# Altium schematic symbol library conectors.SchLib: 14 symbols
Pins are listed as number, name and electrical type; pins without a type are passive.

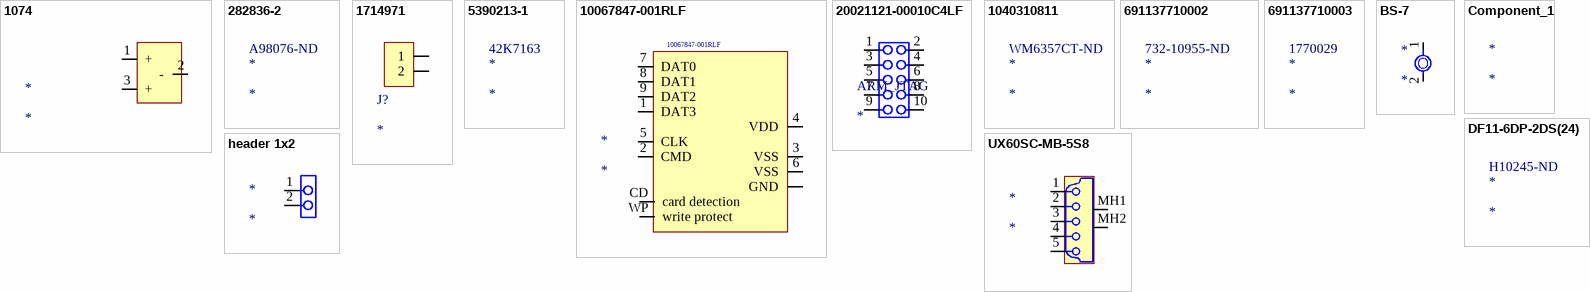
[diagram p0: symbols 1074 to UX60SC-MB-5S8]

## 1074
designator *
Strain Relief Bushing; .437" Mounting Hole; Black; Manufacturer 1: Keystone Electronics; Manufacturer Part Number 1: 1074; Supplier 1: Digi-Key; Stock 1: 5773; Pricing 1: 1=0,66000, 25=0,57280, 100=0,46150, 250=0,42480, 500=0,39892, 1000=0,37305, 2500=0,34070, 5000=0,31483 (USD); RoHS: No; Supplier Part Number 1: 36-1074-ND
footprint pila
pins: 1 +, 2 -, 3 +

## 282836-2
designator *  Supplier Part Number 1: A98076-ND
TE CONNECTIVITY / BUCHANAN - 282836-2 - TERMINAL BLOCK, WIRE TO BRD, 2POS, 16AWG; Plating: Brass; Number of Contacts: 2; Number of Levels: 1; Current: 13.5A; Voltage: 300V; Connector Type: Receptacle; Interlock: Yes (With); Screw Flange: No (Without); Pitch: 5mm; Wire Gauge (Max): 30AWG; Thread Size: M3; Tail Length: 3.5mm; Approvals: UL; Supplier 1: Digi-Key; Manufacturer 1: TE Connectivity; Manufacturer Part Number 1: 282836-2; Stock 1: 5914; Pricing 1: 1=0,76000, 10=0,47500, 25=0,40600, 50=0,36500, 100=0,35750, 250=0,30424, 500=0,28902, 1000=0,25859, 5000=0,22817 (USD); RoHS: Yes; Mount: Through Hole; Color: Green; Contact Material: Brass; Housing Color: Green; Contact Plating: Tin; Housing Material: Polyamide; Insulation Material: Nylon; Number of Rows: 1; Termination: Solder; Package Quantity: 300; Orientation: Straight; Packaging: Tray; Number of Positions: 2; Number of Positions Per Level: 2; Series: Buchanan; Current Rating: 13.5A; Number of Circuits: 2; Screwless Terminal Block: No (Without); Side Stackable: Yes (With); Max Current Rating: 13.5A; Closed End: No (Without); Voltage Rating: 300V; Max Supply Voltage (AC): 300V; Max Voltage Rating (AC): 300V; Number of Poles: 2; Length: 10.6mm; Width: 10mm; Wire Gauge (Min): 30AWG; Depth: 8.2mm; Wire/Cable Gauge: 30AWG; Radiation Hardening: No; Flammability Rating: UL94 V-0; ELV: Compliant; Lead Free: Lead Free; REACH SVHC: Unknown; ComponentLink1URL: https://datasheet.ciiva.com/11757/0900766b8002dc8a-11757385.pdf?src-supplier=RSComponents; ComponentLink1Description: https://datasheet.ciiva.com/11757/0900766b8002dc8a-11757385.pdf?src-supplier=RSComponents; ComponentLink2URL: https://datasheet.ciiva.com/16393/282836-2-16393382.pdf?src-supplier=Future+Electronics; ComponentLink2Description: https://datasheet.ciiva.com/16393/282836-2-16393382.pdf?src-supplier=Future+Electronics; ComponentLink3URL: https://datasheet.ciiva.com/15169/getdatasheetpartid-155855-15169553.pdf?src-supplier=Verical; ComponentLink3Description: https://datasheet.ciiva.com/15169/getdatasheetpartid-155855-15169553.pdf?src-supplier=Verical; ComponentLink4URL: https://datasheet.ciiva.com/7628/1731782-7628513.pdf?src-supplier=Element14; ComponentLink4Description: https://datasheet.ciiva.com/7628/1731782-7628513.pdf?src-supplier=Element14; ComponentLink5URL: https://datasheet.ciiva.com/823/eng-cd-282836-h10-823437.pdf?src-supplier=Digi-Key; ComponentLink5Description: https://datasheet.ciiva.com/823/eng-cd-282836-h10-823437.pdf?src-supplier=Digi-Key; ComponentLink6URL: https://datasheet.ciiva.com/3141/eng-cs-1308389-eurostyle-terminal-blocks-0607-3141118.pdf?src-supplier=Avnet; ComponentLink6Description: https://datasheet.ciiva.com/3141/eng-cs-1308389-eurostyle-terminal-blocks-0607-3141118.pdf?src-supplier=Avnet; ComponentLink7URL: https://datasheet.ciiva.com/16649/eng-cs-1308389-eurostyle-terminal-blocks-0607-16649388.pdf?src-supplier=Avnet+Europe; ComponentLink7Description: https://datasheet.ciiva.com/16649/eng-cs-1308389-eurostyle-terminal-blocks-0607-16649388.pdf?src-supplier=Avnet+Europe; ComponentLink8URL: https://datasheet.ciiva.com/30261/eng-cs-1308389-eurostyle-terminal-blocks-0607-30261813.pdf?src-supplier=Onlinecomponents.com; ComponentLink8Description: https://datasheet.ciiva.com/30261/eng-cs-1308389-eurostyle-terminal-blocks-0607-30261813.pdf?src-supplier=Onlinecomponents.com

## 1714971
designator J?
Large Style 2pos 32a 500vac 24-10awg Green Plastic Interlocking Housing 9.5.0mm Pitch; Manufacturer 1: Phoenix Contact; Manufacturer Part Number 1: 1714971; Number of Poles: 2; Voltage Rating: 1kV; Max Supply Voltage: 690V; Number of Levels: 1; Current: 30A; Voltage: 600V; Connector Type: PCB,Terminal Block; Gender: Male; Wire Gauge (Max): 24AWG; Wire Gauge (Min): 10AWG; Pitch: 0.375inch; Stripping Length: 8mm; Approvals: UL,CSA,cULus,EAC; Supplier 1: Digi-Key; Stock 1: 16891; Pricing 1: 1=1,79000, 10=1,74400, 50=1,63000, 100=1,49960, 250=1,38552, 500=1,32030, 1000=1,25510 (USD); RoHS: Yes; Mount: Through Hole; Number of Pins: 2; Color: Green; Weight: 0.228928oz; Housing Color: Green; Housing Material: Polyamide; Insulation Material: Nylon; Contact Material: Tin; Material: Polyamide; Packaging: Bulk; Max Current Rating: 32A; Package Quantity: 50; Number of Rows: 1; Current Rating: 32A; Number of Positions Per Level: 2; Termination: Screw; Number of Positions: 2; Number of Contacts: 2; Number of Circuits: 2; Orientation: Straight; Series: MKDS; Length: 19.04mm; Width: 21.5mm; Height: 21.5mm; Wire/Cable Gauge: 24AWG; Depth: 12.5mm; Radiation Hardening: No; RoHS Compliant: Yes; Lead Free: Lead Free; Flammability Rating: UL94 V-0; REACH SVHC: No SVHC; ComponentLink1URL: https://datasheet.ciiva.com/823/1714971-823798.pdf?src-supplier=Digi-Key; ComponentLink1Description: https://datasheet.ciiva.com/823/1714971-823798.pdf?src-supplier=Digi-Key; ComponentLink2URL: https://datasheet.ciiva.com/16071/1714971-16071957.pdf?src-supplier=Onlinecomponents.com; ComponentLink2Description: https://datasheet.ciiva.com/16071/1714971-16071957.pdf?src-supplier=Onlinecomponents.com; ComponentLink3URL: https://datasheet.ciiva.com/15169/getdatasheetpartid-177884-15169654.pdf?src-supplier=Verical; ComponentLink3Description: https://datasheet.ciiva.com/15169/getdatasheetpartid-177884-15169654.pdf?src-supplier=Verical; ComponentLink4URL: https://datasheet.ciiva.com/1118/100944-1118424.pdf?src-supplier=Element14; ComponentLink4Description: https://datasheet.ciiva.com/1118/100944-1118424.pdf?src-supplier=Element14; ComponentLink5URL: https://datasheet.ciiva.com/29218/744593-da-01-en-printklemme-mkds-5-2-9-5-29218293.pdf?src-supplier=Conrad; ComponentLink5Description: https://datasheet.ciiva.com/29218/744593-da-01-en-printklemme-mkds-5-2-9-5-29218293.pdf?src-supplier=Conrad; Supplier Part Number 1: 277-1271-ND
pins: 1, 2

## 5390213-1
designator *  Supplier Part Number 1: 42K7163
DIMM Connectors DIMM SKT 100P 2.54mm; Manufacturer 1: TE Connectivity; Manufacturer Part Number 1: 5390213-1; Number of Contacts: 100; Voltage Rating: 3.3V; Insulation Resistance: 10GR; PCB Mount Retention: With; Contact Current Rating: 500mA; Circuit Application: Signal; Connector System: Board-to-Board; Sealable: No (Without); Pitch: 0.05inch; Row Spacing: 0.075inch; Plating Thickness: 6.35um; Contact Post Length: 0.102inch; Supplier 1: Newark; Stock 1: 0; RoHS: Yes; Mount: Through Hole; Contact Plating: Gold,Tin,Matte; Contact Material: Bronze; Housing Material: Nylon; Insulation Material: Nylon; Housing Color: Black; Min Operating Temperature: -67°C; Max Operating Temperature: 185°C; Number of Rows: 2; Termination: Through Hole; Orientation: Straight; Packaging: Rail/Tube; Package Quantity: 44; Number of Positions: 100; Series: -; Length: 105.41mm; Depth: 7.54mm; Radiation Hardening: No; Flammability Rating: UL94 V-0; ComponentLink1URL: https://datasheet.ciiva.com/682/eng-cd-5390213-b2-682696.pdf?src-supplier=Digi-Key; ComponentLink1Description: https://datasheet.ciiva.com/682/eng-cd-5390213-b2-682696.pdf?src-supplier=Digi-Key; ComponentLink2URL: https://datasheet.ciiva.com/45848/pgurl-53902131-45848295.pdf?src-supplier=Onlinecomponents.com; ComponentLink2Description: https://datasheet.ciiva.com/45848/pgurl-53902131-45848295.pdf?src-supplier=Onlinecomponents.com

## 10067847-001RLF
designator *  Manufacturer Part Number 1: 10067847-001RLF
Conn; Data; SD (SanDisk Memory) Card Reader; Push - Push Type; Manufacturer 1: Amphenol ICC; Supplier 1: Allied Electronics; Stock 1: 0; RoHS: Yes; RoHS Compliant: Yes; ComponentLink1URL: http://www.farnell.com/cad/1912985.pdf?src-supplier=Farnell; ComponentLink1Description: http://www.farnell.com/cad/1912985.pdf?src-supplier=Farnell; ComponentLink2URL: http://www.farnell.com/cad/1912985.pdf?src-supplier=Element14; ComponentLink2Description: http://www.farnell.com/cad/1912985.pdf?src-supplier=Element14; ComponentLink3URL: http://www.farnell.com/datasheets/2562281.pdf?src-supplier=Newark; ComponentLink3Description: http://www.farnell.com/datasheets/2562281.pdf?src-supplier=Newark; Supplier Part Number 1: 70248486; ComponentLink4Description: aa; ComponentLink4URL: https://www.amphenol-icc.com/media/wysiwyg/files/drawing/10067847.pdf
pins: 1 DAT3, 2 CMD, 3 VSS, 4 VDD, 5 CLK, 6 VSS, 7 DAT0, 8 DAT1, 9 DAT2, CD card detection, GND, WP write protect

## 20021121-00010C4LF
designator ARM_JTAG
Conn Unshrouded Header HDR 10 POS 1.27mm Solder ST Top Entry SMD Minitek127® T/R; Manufacturer 1: Amphenol ICC / FCI; Manufacturer Part Number 1: 20021121-00010C4LF; Supplier 1: Digi-Key; Stock 1: 0; Pricing 1: 1=0,91000, 10=0,76900, 100=0,69070 (USD); RoHS: No; ComponentLink1URL: https://datasheet.ciiva.com/11749/0900766b8118d62a-11749057.pdf?src-supplier=RSComponents; ComponentLink1Description: https://datasheet.ciiva.com/11749/0900766b8118d62a-11749057.pdf?src-supplier=RSComponents; Supplier Part Number 1: 609-3695-1-ND
pins: 1, 2, 3, 4, 5, 6, 7, 8, 9, 10

## 1040310811
designator *  Supplier Part Number 1: WM6357CT-ND
GLOVE, POLYAMIDE, L/FREE, PU, SIZE 6 - More Details; Manufacturer 1: Molex; Manufacturer Part Number 1: 1040310811; Number of Contacts: 8; Current Rating: 500mA; Voltage Rating (AC): 10V; Mating Cycles: 10000; Connector Type: Connector; Gender: Female; Pitch: 1.1mm; Supplier 1: Digi-Key; Stock 1: 39652; Pricing 1: 1=2,12000, 10=1,80700, 100=1,49270, 1000=1,17842 (USD); RoHS: Yes; Mount: Standard,Surface Mount; Contact Material: Bronze; Contact Plating: Gold; Housing Material: Polymer; Min Operating Temperature: -25°C; Max Operating Temperature: 85°C; Number of Rows: 1; Orientation: Right Angle; Packaging: Tape and Reel; Package Quantity: 1; Termination: Solder; Number of Circuits: 8; Series: 104031; Length: 11.14mm; Width: 11.4mm; Height: 1.42mm; Depth: 11.4mm; Radiation Hardening: No; REACH SVHC: Unknown; Halogen Free: Low Halogen; ComponentLink1URL: https://datasheet.ciiva.com/16655/1040310811-memory-card-socket-16655292.pdf?src-supplier=Avnet+Europe; ComponentLink1Description: https://datasheet.ciiva.com/16655/1040310811-memory-card-socket-16655292.pdf?src-supplier=Avnet+Europe; ComponentLink2URL: https://datasheet.ciiva.com/4581/1040310811-memory-card-socket-153593-4581012.pdf?src-supplier=Mouser; ComponentLink2Description: https://datasheet.ciiva.com/4581/1040310811-memory-card-socket-153593-4581012.pdf?src-supplier=Mouser; ComponentLink3URL: https://datasheet.ciiva.com/683/1040310811-sd-683579.pdf?src-supplier=Digi-Key; ComponentLink3Description: https://datasheet.ciiva.com/683/1040310811-sd-683579.pdf?src-supplier=Digi-Key; ComponentLink4URL: https://datasheet.ciiva.com/3121/1040310811-memory-card-socket-3121437.pdf?src-supplier=Avnet; ComponentLink4Description: https://datasheet.ciiva.com/3121/1040310811-memory-card-socket-3121437.pdf?src-supplier=Avnet; ComponentLink5URL: https://datasheet.ciiva.com/15174/getdatasheetpartid-716154-15174887.pdf?src-supplier=Verical; ComponentLink5Description: https://datasheet.ciiva.com/15174/getdatasheetpartid-716154-15174887.pdf?src-supplier=Verical; ComponentLink6URL: https://datasheet.ciiva.com/16496/1040310811-memory-card-socket-16496702.pdf?src-supplier=Avnet+Asia; ComponentLink6Description: https://datasheet.ciiva.com/16496/1040310811-memory-card-socket-16496702.pdf?src-supplier=Avnet+Asia; ComponentLink7URL: https://datasheet.ciiva.com/683/1040310811-sd-683580.pdf?src-supplier=Digi-Key; ComponentLink7Description: https://datasheet.ciiva.com/683/1040310811-sd-683580.pdf?src-supplier=Digi-Key; ComponentLink8URL: https://datasheet.ciiva.com/683/1040310811-sd-683581.pdf?src-supplier=Digi-Key; ComponentLink8Description: https://datasheet.ciiva.com/683/1040310811-sd-683581.pdf?src-supplier=Digi-Key

## 691137710002
designator *  Supplier Part Number 1: 732-10955-ND
TERM BLK 2POS SIDE ENTRY 5MM PCB; Manufacturer 1: Wurth Electronics; Manufacturer Part Number 1: 691137710002; Plating: Copper Alloy; Number of Levels: 1; Number of Positions Per Level: 2; Current: 16A; Voltage: 300V; Wire Gauge (Max): 30AWG; Wire Gauge (Min): 12AWG; Supplier 1: Digi-Key; Stock 1: 11239; Pricing 1: 1=0,39000, 10=0,35200, 50=0,31100, 100=0,27900, 500=0,26900 (USD); RoHS: No; Mount: Through Hole; Color: Green; Housing Material: PC; Min Operating Temperature: -30°C; Max Operating Temperature: 120°C; Packaging: Bulk; Termination: Screw; ComponentLink1URL: https://katalog.we-online.de/em/datasheet/691137710002.pdf?src-supplier=Digi-Key; ComponentLink1Description: https://katalog.we-online.de/em/datasheet/691137710002.pdf?src-supplier=Digi-Key

## 691137710003
designator *  Supplier Part Number 1: 1770029
TERM BLK 3POS SIDE ENTRY 5MM PCB; Manufacturer 1: Wurth Electronics; Manufacturer Part Number 1: 691137710003; Supplier 1: RSComponents; Stock 1: 630; Pricing 1: 5=0,72200, 25=0,65000, 50=0,59000, 100=0,54200, 250=0,50000 (GBP); RoHS: No; ComponentLink1URL: https://katalog.we-online.de/em/datasheet/691137710003.pdf?src-supplier=Digi-Key; ComponentLink1Description: https://katalog.we-online.de/em/datasheet/691137710003.pdf?src-supplier=Digi-Key

## BS-7
designator *
BATTERY HOLDER COIN 20MM PC PIN; Manufacturer 1: Memory Protection Devices; Manufacturer Part Number 1: BS-7; Number of Cells: 1; Supplier 1: Digi-Key; Stock 1: 66566; Pricing 1: 1=1,10000, 10=0,92700, 50=0,81480, 100=0,76800, 250=0,70672, 500=0,66344, 1000=0,62018, 2500=0,56249, 5000=0,51922 (USD); RoHS: Yes; Mount: Through Hole,PCB; Min Operating Temperature: -55°C; Max Operating Temperature: 105°C; Package Quantity: 100; Termination: PC Pin; Diameter: 20mm; RoHS Compliant: Yes; Lead Free: Lead Free; ComponentLink1URL: https://datasheet.ciiva.com/3/bs-7-datasheet-3824.pdf?src-supplier=Digi-Key; ComponentLink1Description: https://datasheet.ciiva.com/3/bs-7-datasheet-3824.pdf?src-supplier=Digi-Key; Supplier Part Number 1: BS-7-ND
pins: 1, 2

## Component_1
designator *

## DF11-6DP-2DS(24)
designator *  Supplier Part Number 1: H10245-ND
HIROSE(HRS) - DF11-6DP-2DS(24) - Wire-To-Board Connector, Right Angle, 2 mm, 6 Contacts, Header, Through Hole, 2 Rows; Number of Contacts: 6; Current Rating: 2A; Contact Resistance: 30mR; Voltage Rating: 250V; Mating Cycles: 30; Voltage Rating (AC): 30V; Insulation Resistance: 1GR; Gender: Male; Connector Type: Male Pin; Pitch: 2mm; Row Spacing: 0.079inch; Supplier 1: Digi-Key; Manufacturer 1: Hirose; Manufacturer Part Number 1: DF11-6DP-2DS(24); Stock 1: 0; Pricing 1: 1=0,54000, 61=0,40328, 122=0,38639, 488=0,33600, 976=0,27720, 4941=0,24360, 9821=0,22680 (USD); RoHS: Yes; Mount: Through Hole; Contact Plating: Tin; Contact Material: Brass,Copper Alloy,Tin; Color: Black; Housing Color: Black; Housing Material: Polyamide; Min Operating Temperature: -30°C; Max Operating Temperature: 85°C; Number of Rows: 2; Termination: Solder; Package Quantity: 61; Fastening Type: Detent; Packaging: Rail/Tube; Max Current Rating: 2A; Number of Positions: 6; Contact Gender: Male; Orientation: Right Angle; Series: DF11; Contact Type: Male Pin; Length: 8mm; Height: 5mm; Lead Pitch: 2mm; Contact Mating Length: 0.118inch; Depth: 10mm; Radiation Hardening: No; REACH SVHC: No SVHC; Lead Free: Lead Free; Flammability Rating: UL94 V-0; RoHS Compliant: Yes; ComponentLink1URL: https://datasheet.ciiva.com/14667/0900766b80d975f3-14667398.pdf?src-supplier=RSComponents; ComponentLink1Description: https://datasheet.ciiva.com/14667/0900766b80d975f3-14667398.pdf?src-supplier=RSComponents; ComponentLink2URL: https://datasheet.ciiva.com/26897/getdatasheetpartid-469398-26897590.pdf?src-supplier=Verical; ComponentLink2Description: https://datasheet.ciiva.com/26897/getdatasheetpartid-469398-26897590.pdf?src-supplier=Verical; ComponentLink3URL: https://datasheet.ciiva.com/11752/0900766b8080dda0-11752244.pdf?src-supplier=RSComponents; ComponentLink3Description: https://datasheet.ciiva.com/11752/0900766b8080dda0-11752244.pdf?src-supplier=RSComponents; ComponentLink4URL: https://datasheet.ciiva.com/5153/en-df11-20130411-5153144.pdf?src-supplier=Mouser; ComponentLink4Description: https://datasheet.ciiva.com/5153/en-df11-20130411-5153144.pdf?src-supplier=Mouser; ComponentLink5URL: https://datasheet.ciiva.com/16373/en-df11-20130411-16373342.pdf?src-supplier=Future+Electronics; ComponentLink5Description: https://datasheet.ciiva.com/16373/en-df11-20130411-16373342.pdf?src-supplier=Future+Electronics; ComponentLink6URL: https://datasheet.ciiva.com/14122/df11serie-eng-tds-14122264.pdf?src-supplier=Distrelec; ComponentLink6Description: https://datasheet.ciiva.com/14122/df11serie-eng-tds-14122264.pdf?src-supplier=Distrelec

## header 1x2
designator *
pins: 1, 2

## UX60SC-MB-5S8
designator *
Conn Mini USB 2.0 Type B RCP 5 POS 0.8mm Solder RA SMD 5 Terminal 1 Port Embossed T/R; Manufacturer 1: Hirose; Manufacturer Part Number 1: UX60SC-MB-5S8; Number of Terminals/Pins: 5; Gender: Receptacle; Connector Type: USB,Receptacle; Current Rating: 1A; Number of Ports: 1; Insulation Resistance: 100MR; Max Voltage Rating (AC): 5V; USB Standard: USB 2.0; Supplier 1: Digi-Key; Stock 1: 15275; Pricing 1: 1=0,99000, 10=0,86700, 25=0,81600, 50=0,78200, 100=0,74800, 250=0,68000, 500=0,61200 (USD); RoHS: Yes; Mount: Surface Mount,Horizontal,Through Hole; Contact Material: Copper Alloy,Copper; Contact Plating: Gold; Min Operating Temperature: -30°C; Max Operating Temperature: 75°C; Package Quantity: 1000; Packaging: Tape and Reel; Number of Contacts: 5; Termination: Solder; Orientation: Right Angle; Series: UX60S; Number of Rows: 1; Max Current Rating: 1A; Number of Positions: 5; Length: 7.7mm; Pitch: 0.8mm; Depth: 7mm; REACH SVHC: No SVHC; Lead Free: Lead Free; ComponentLink1URL: https://datasheet.ciiva.com/22666/1693469-22666928.pdf?src-supplier=Element14; ComponentLink1Description: https://datasheet.ciiva.com/22666/1693469-22666928.pdf?src-supplier=Element14; ComponentLink2URL: https://datasheet.ciiva.com/4598/ed-ux-20140717-4598805.pdf?src-supplier=Mouser; ComponentLink2Description: https://datasheet.ciiva.com/4598/ed-ux-20140717-4598805.pdf?src-supplier=Mouser; ComponentLink3URL: https://datasheet.ciiva.com/15181/getdatasheetpartid-457316-15181367.pdf?src-supplier=Verical; ComponentLink3Description: https://datasheet.ciiva.com/15181/getdatasheetpartid-457316-15181367.pdf?src-supplier=Verical; Supplier Part Number 1: H11589CT-ND
pins: 1, 2, 3, 4, 5, MH1 6, MH2 7